# Altium integrated library Mechanic.IntLib: 14 symbols
Pins are listed as number, name and electrical type; pins without a type are passive.

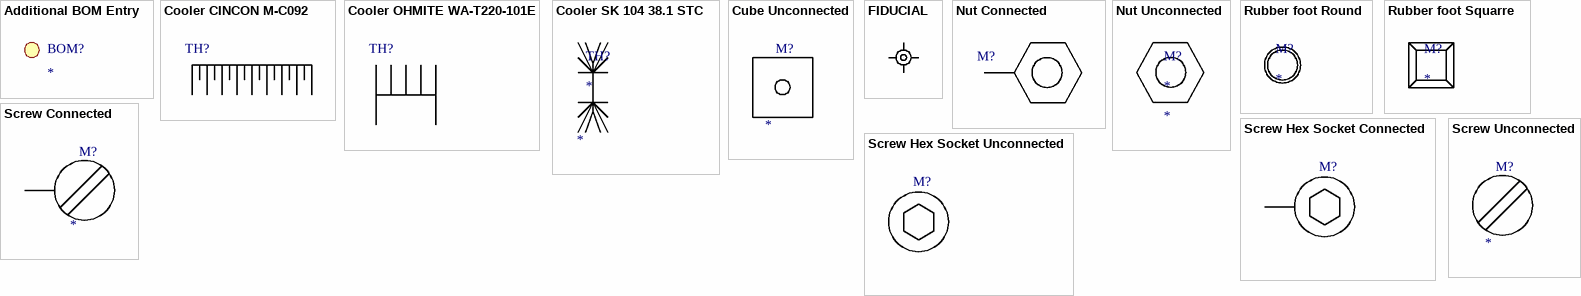
[diagram p0: symbols Additional BOM Entry to Screw Unconnected]

## Additional BOM Entry
designator BOM?
Component without pattern; Value: *

## Cooler CINCON M-C092
designator TH?  (value not drawn)
Cooler CINCON M-C092 H: 25.4; value: *
footprint Cooler CINCON M-C092 (COOLER CINCON M-C092 H: 25.4)

## Cooler OHMITE WA-T220-101E
designator TH?  (value not drawn)
Cooler OHMITE WA-T220-101E H: 30.5; value: *
footprint Cooler OHMITE WA-T220-101E (Cooler OHMITE WA-T220-101E Length 18.3 mm With 16.0 Height 30.5)

## Cooler SK 104 38.1 STC
designator TH?
Cooler SK 104 38.1 STC Height 38.1 mm; Value: *
footprint Cooler SK 104 38.1 STC (Cooler SK 104 STC Length 34.9 mm With 12.7 Height 38.1)

## Cube Unconnected
designator M?
Cube Unconnected; Value: *
footprint Cube Unconnected (Cube Unconnected with M3 Drill)

## FIDUCIAL
designator Z?, comment 1 - 3  (value not drawn)
FIDUCIAL / Din 1mm / Dout 3mm; Value: 1 - 3
footprint FIDUCIAL (FIDUCIAL Din 1mm Dout 3mm)

## Nut Connected
designator M?  (value not drawn)
Nut Connected; Value: *
footprint Nut M3 Connected (Standard Nut M3 0.8d Connected)
footprint Nut M4 Connected (Standard Nut M4 0.8d Connected)
footprint Nut M5 Connected (Standard Nut M5 0.8d Connected)
footprint Nut M2 Connected (Standard Nut M2 0.8d Connected)
pins: 1

## Nut Unconnected
designator M?
Nut Unconnected; Value: *
footprint Nut M3 Unconnected (Standard Nut M3 0.8d Unconnected)
footprint Nut M4 Unconnected (Standard Nut M4 0.8d Unconnected)
footprint Nut M5 Unconnected (Standard Nut M5 0.8d Unconnected)
footprint Nut M2 Unconnected (Standard Nut M2 0.8d Unconnected)

## Rubber foot Round
designator M?
Rubber foot Round; Value: *
footprint RUBBER FOOT Multicomp PD.2075BL (RUBBER FOOT D8.0 H3.0)

## Rubber foot Squarre
designator M?
Rubber foot Squarre; Value: *
footprint Rubber foot 3M SJ5018 (Rubber foot 12.7X12.7 H5.8)
footprint Rubber foot 3M SJ5008 (Rubber foot 12.7X12.7 H3.1)

## Screw Connected
designator M?
Screw Connected BN330; Value: *
footprint Screw M3X12 Connected (Standard Screw M3X12 Connected BN330)
pins: 1

## Screw Hex Socket Connected
designator M?
Screw Hex Socket Connected BN610
footprint Screw Hex Socket M2.5X4 Connected (Screw Hex Socket M2.5X4 Connected BN610)
footprint Screw Hex Socket M2X4 Connected (Screw Hex Socket M2X4 Connected BN610)
footprint Screw Hex Socket M3X5 Connected (Screw Hex Socket M3X5 Connected BN610)
pins: 1

## Screw Hex Socket Unconnected
designator M?
Screw Hex Socket Unconnected BN610
footprint Screw Hex Socket M2X4 Unconnected (Screw Hex Socket M2X4 Unconnected BN610)
footprint Screw Hex Socket M3X5 Unconnected (Screw Hex Socket M3X5 Unconnected BN610)
footprint Screw Hex Socket M2.5X4 Unconnected (Screw Hex Socket M2.5X4 Unconnected BN610)

## Screw Unconnected
designator M?
Screw Unconnected BN330; Value: *
footprint Screw M3X12 Unconnected (Standard Screw M3X12 Unconnected BN330)